# Altium footprint library PcbLib3_CAP_600V_20UF.PcbLib: 1 footprints
Each footprint in its own frame and in the unit in brackets; x right, y up, seen from the top. Pads: shape width x height; smd on the part's side, far side on the other; paste and mask are expansions set on the pad; w line width, h text height; cw(c..) or ccw(c..) is an arc to the next point about the centre after c.
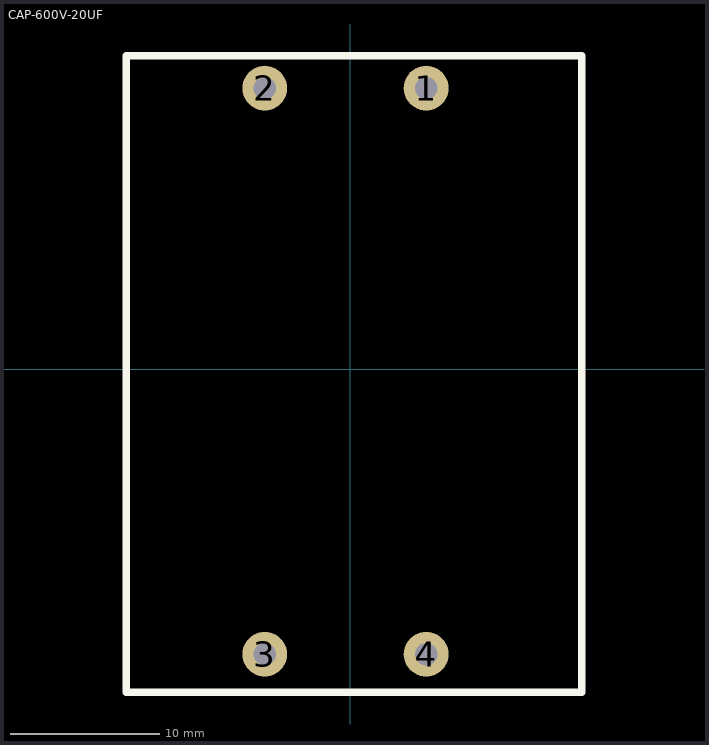
[diagram p0: the footprint, top view; thin cyan lines are the x and y axes]

## CAP-600V-20UF [mm]
pads (4):
  round 3 hole 1.5: 1(5.08,18.796) 2(-5.715,18.796) 3(-5.715,-19.05) 4(5.08,-19.05)
Top Overlay:
  lines w0.5: -14.986,20.828 -14.986,-21.59 15.494,-21.59 15.494,20.955 -14.986,20.955